# EAGLE library part HMC430LP4ETR (library SamacSys_Parts)
VCO Oscillators VCO SMT w/Buffer amp, 5.0 - 5.5 GHz Source: Datasheet <https://www.analog.com/media/en/technical-documentation/data-sheets/hmc430.pdf>
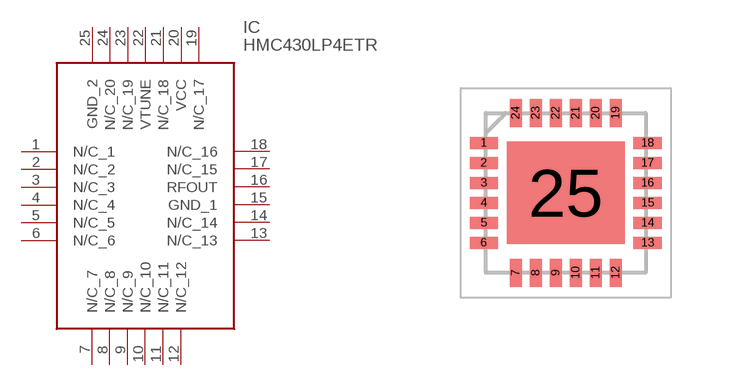
[diagram p1: symbol with the pads of QFN50P400X400X100-25N; footprint QFN50P400X400X100-25N]

Designator prefix IC

## HMC430LP4ETR (DESCRIPTION: VCO Oscillators VCO SMT w/Buffer amp, 5.0 - 5.5 GHz; HEIGHT: 1mm; MANUFACTURER_NAME: Analog Devices; MANUFACTURER_PART_NUMBER: HMC430LP4ETR; MOUSER_PART_NUMBER: 584-HMC430LP4ETR; MOUSER_PRICE-STOCK: https://www.mouser.co.uk/ProductDetail/Analog-Devices/HMC430LP4ETR?qs=pceeu5JH%2FH8gg6v6ve1tvQ%3D%3D)  [QFN50P400X400X100-25N]
1  N/C_1
2  N/C_2
3  N/C_3
4  N/C_4
5  N/C_5
6  N/C_6
7  N/C_7
8  N/C_8
9  N/C_9
10  N/C_10
11  N/C_11
12  N/C_12
13  N/C_13
14  N/C_14
15  GND_1
16  RFOUT
17  N/C_15
18  N/C_16
19  N/C_17
20  VCC
21  N/C_18
22  VTUNE
23  N/C_19
24  N/C_20
25  GND_2

## Footprint QFN50P400X400X100-25N (pad centres in mm)
24-VFQFN-A
smd 0.7 x 0.3: 1 -2.05,1.25; 2 -2.05,0.75; 3 -2.05,0.25; 4 -2.05,-0.25; 5 -2.05,-0.75; 6 -2.05,-1.25; 13 2.05,-1.25; 14 2.05,-0.75; 15 2.05,-0.25; 16 2.05,0.25; 17 2.05,0.75; 18 2.05,1.25
smd 0.3 x 0.7: 7 -1.25,-2; 8 -0.75,-2; 9 -0.25,-2; 10 0.25,-2; 11 0.75,-2; 12 1.25,-2; 19 1.25,2; 20 0.75,2; 21 0.25,2; 22 -0.25,2; 23 -0.75,2; 24 -1.25,2
smd 2.95 x 2.56: 25 0,0